# EAGLE library part PIC32MX360F512L (library microchip)
PIC32MX360F512L edit this description Auto generated by make-symbol-device-package-bsdl.ulp Rev. 25 Source: PIC32MX360F512L.bsdl
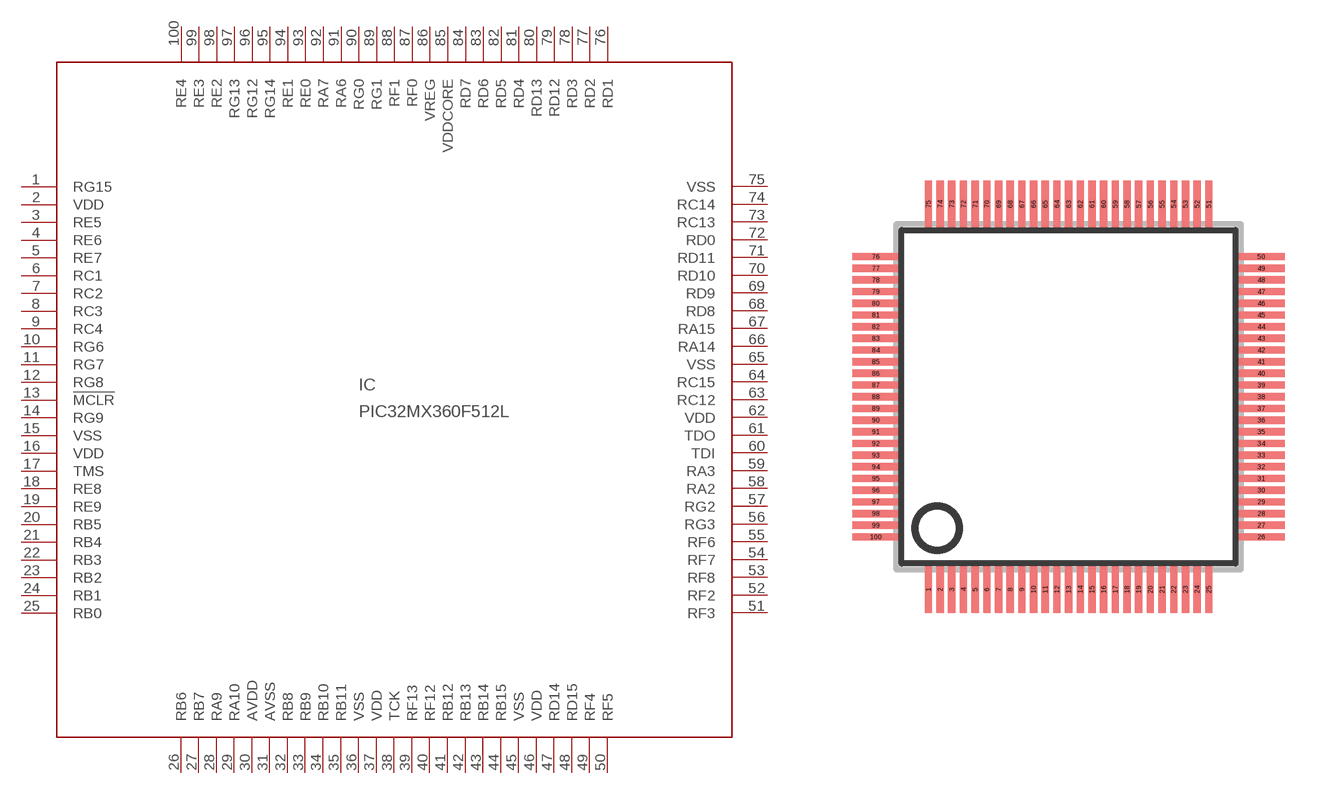
[diagram p113: symbol with the pads of SQFP-S-12X12-100; footprint SQFP-S-12X12-100]

Designator prefix IC

## PIC32MX360F512L (MPN: PIC32MX360F512L-80I/PT; OC_FARNELL: 1523324; OC_NEWARK: 77M3152)  [SQFP-S-12X12-100]
1  RG15
2  VDD  pwr
3  RE5
4  RE6
5  RE7
6  RC1
7  RC2
8  RC3
9  RC4
10  RG6
11  RG7
12  RG8
13  !MCLR  in
14  RG9
15  VSS  pwr
16  VDD  pwr
17  TMS  in
18  RE8
19  RE9
20  RB5
21  RB4
22  RB3
23  RB2
24  RB1
25  RB0
26  RB6
27  RB7
28  RA9
29  RA10
30  AVDD  pwr
31  AVSS  pwr
32  RB8
33  RB9
34  RB10
35  RB11
36  VSS  pwr
37  VDD  pwr
38  TCK  in
39  RF13
40  RF12
41  RB12
42  RB13
43  RB14
44  RB15
45  VSS  pwr
46  VDD  pwr
47  RD14
48  RD15
49  RF4
50  RF5
51  RF3
52  RF2
53  RF8
54  RF7
55  RF6
56  RG3
57  RG2
58  RA2
59  RA3
60  TDI  in
61  TDO  out
62  VDD  pwr
63  RC12
64  RC15
65  VSS  pwr
66  RA14
67  RA15
68  RD8
69  RD9
70  RD10
71  RD11
72  RD0
73  RC13
74  RC14
75  VSS  pwr
76  RD1
77  RD2
78  RD3
79  RD12
80  RD13
81  RD4
82  RD5
83  RD6
84  RD7
85  VDDCORE  pwr
86  VREG  pas
87  RF0
88  RF1
89  RG1
90  RG0
91  RA6
92  RA7
93  RE0
94  RE1
95  RG14
96  RG12
97  RG13
98  RE2
99  RE3
100  RE4

## Footprint SQFP-S-12X12-100 (pad centres in mm)
QFP100 shrink quad flat pack, square
smd 0.25 x 1.6: 1 -4.8,-6.6; 2 -4.4,-6.6; 3 -4,-6.6; 4 -3.6,-6.6; 5 -3.2,-6.6; 6 -2.8,-6.6; 7 -2.4,-6.6; 8 -2,-6.6; 9 -1.6,-6.6; 10 -1.2,-6.6; 11 -0.8,-6.6; 12 -0.4,-6.6; 13 0,-6.6; 14 0.4,-6.6; 15 0.8,-6.6; 16 1.2,-6.6; 17 1.6,-6.6; 18 2,-6.6; 19 2.4,-6.6; 20 2.8,-6.6; 21 3.2,-6.6; 22 3.6,-6.6; 23 4,-6.6; 24 4.4,-6.6; 25 4.8,-6.6; 51 4.8,6.6; 52 4.4,6.6; 53 4,6.6; 54 3.6,6.6; 55 3.2,6.6; 56 2.8,6.6; 57 2.4,6.6; 58 2,6.6; 59 1.6,6.6; 60 1.2,6.6; 61 0.8,6.6; 62 0.4,6.6; 63 0,6.6; 64 -0.4,6.6; 65 -0.8,6.6; 66 -1.2,6.6; 67 -1.6,6.6; 68 -2,6.6; 69 -2.4,6.6; 70 -2.8,6.6; 71 -3.2,6.6; 72 -3.6,6.6; 73 -4,6.6; 74 -4.4,6.6; 75 -4.8,6.6
smd 1.6 x 0.25: 26 6.6,-4.8; 27 6.6,-4.4; 28 6.6,-4; 29 6.6,-3.6; 30 6.6,-3.2; 31 6.6,-2.8; 32 6.6,-2.4; 33 6.6,-2; 34 6.6,-1.6; 35 6.6,-1.2; 36 6.6,-0.8; 37 6.6,-0.4; 38 6.6,0; 39 6.6,0.4; 40 6.6,0.8; 41 6.6,1.2; 42 6.6,1.6; 43 6.6,2; 44 6.6,2.4; 45 6.6,2.8; 46 6.6,3.2; 47 6.6,3.6; 48 6.6,4; 49 6.6,4.4; 50 6.6,4.8; 76 -6.6,4.8; 77 -6.6,4.4; 78 -6.6,4; 79 -6.6,3.6; 80 -6.6,3.2; 81 -6.6,2.8; 82 -6.6,2.4; 83 -6.6,2; 84 -6.6,1.6; 85 -6.6,1.2; 86 -6.6,0.8; 87 -6.6,0.4; 88 -6.6,0; 89 -6.6,-0.4; 90 -6.6,-0.8; 91 -6.6,-1.2; 92 -6.6,-1.6; 93 -6.6,-2; 94 -6.6,-2.4; 95 -6.6,-2.8; 96 -6.6,-3.2; 97 -6.6,-3.6; 98 -6.6,-4; 99 -6.6,-4.4; 100 -6.6,-4.8